# Altium footprint library DXPpcb.PCBLIB: 575 footprints (part 24 of 36)
Each footprint in its own frame and in the unit in brackets; x right, y up, seen from the top. Pads: shape width x height; smd on the part's side, far side on the other; paste and mask are expansions set on the pad; w line width, h text height; cw(c..) or ccw(c..) is an arc to the next point about the centre after c.
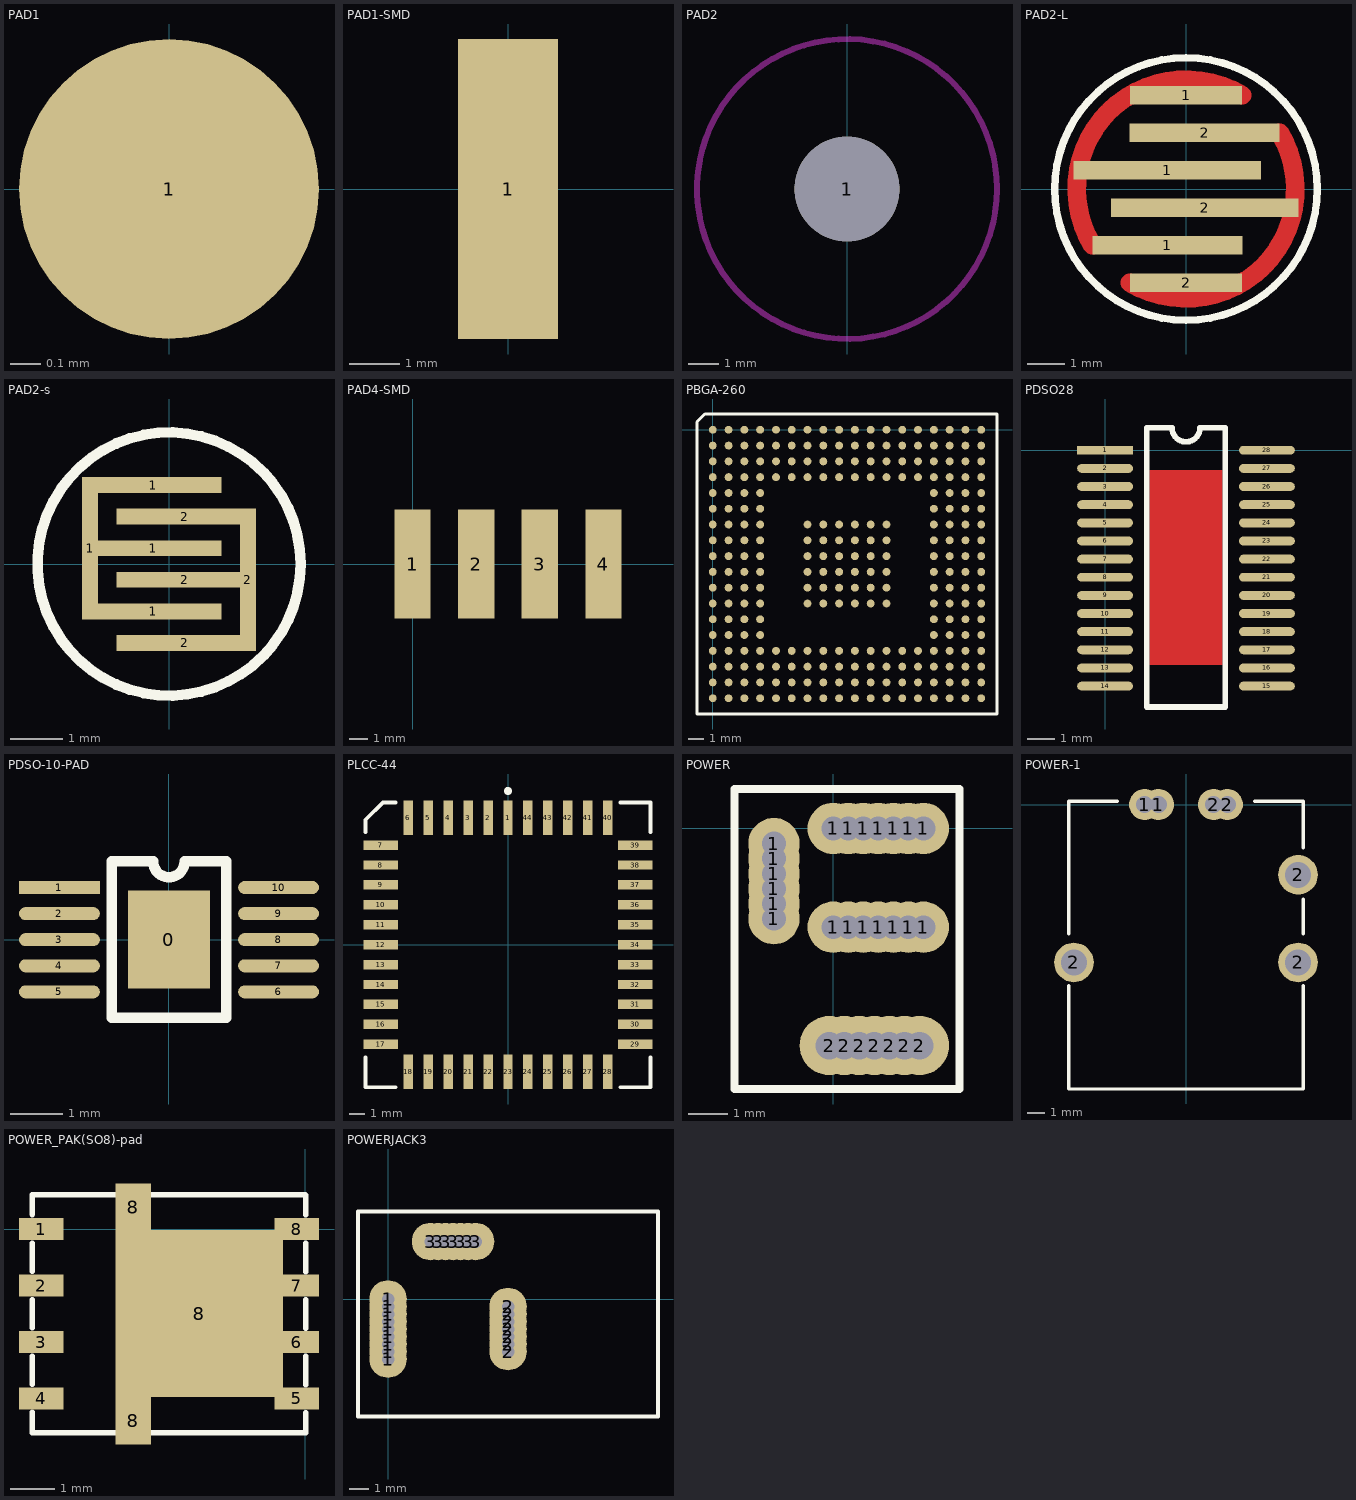
[diagram p23: the footprints below, top view; thin cyan lines are the x and y axes]

## PAD1 [mm]
pads (1):
  round 1 smd: 1(0,0)

## PAD1-SMD [mm]
pads (1):
  rect 2x6 smd: 1(0,0)

## PAD2 [mm]
pads (1):
  round 3.5 hole 3.5: 1(0,32.5)
KeepOutLayer:
  circle w0.2: c0,32.5 r5

## PAD2-L [mm]
pads (6):
  rect 4x0.5 smd: 1(-0.5,-1.5) 2(0.5,1.5)
  rect 5x0.5 smd: 1(-0.5,0.5) 2(0.5,-0.5)
  rect 3x0.5 smd: 1(0,2.5) 2(0,-2.5)
TopLayer:
  lines w0.5: -2.5,-1.5 cw(c0,0) 1.5,2.5 ; -1.5,-2.5 ccw(c0,0) 2.5,1.5
TopOverlay:
  circle w0.2: c0,0 r3.5
TopSolder:
  lines w0.6: -2.5,-1.5 cw(c0,0) 1.5,2.5 ; -1.5,-2.5 ccw(c0,0) 2.5,1.5

## PAD2-s [mm]
pads (8):
  rect 0.3x2.7 smd: 1(-1.5,0.3) 2(1.5,-0.3)
  rect 2.6x0.3 smd: 1(-0.3,-0.9) 1(-0.3,0.3) 1(-0.3,1.5) 2(0.3,-1.5) 2(0.3,-0.3) 2(0.3,0.9)
TopOverlay:
  circle w0.2: c0,0 r2.5

## PAD4-SMD [mm]
pads (4):
  rect 2x6 smd: 1(0,0) 2(3.5,0) 3(7,0) 4(10.5,0)

## PBGA-260 [mm]
pads (260):
  round 0.5 smd: A1(0,0) A2(1,0) A3(2,0) A4(3,0) A5(4,0) A6(5,0) A7(6,0) A8(7,0) A9(8,0) A10(9,0) A11(10,0) A12(11,0) A13(12,0) A14(13,0) A15(14,0) A16(15,0) A17(16,0) A18(17,0) B1(0,-1) B2(1,-1) B3(2,-1) B4(3,-1) B5(4,-1) B6(5,-1) B7(6,-1) B8(7,-1) B9(8,-1) B10(9,-1) B11(10,-1) B12(11,-1) B13(12,-1) B14(13,-1) B15(14,-1) B16(15,-1) B17(16,-1) B18(17,-1) C1(0,-2) C2(1,-2) C3(2,-2) C4(3,-2) C5(4,-2) C6(5,-2) C7(6,-2) C8(7,-2) C9(8,-2) C10(9,-2) C11(10,-2) C12(11,-2) C13(12,-2) C14(13,-2) C15(14,-2) C16(15,-2) C17(16,-2) C18(17,-2) D1(0,-3) D2(1,-3) D3(2,-3) D4(3,-3) D5(4,-3) D6(5,-3) D7(6,-3) D8(7,-3) D9(8,-3) D10(9,-3) D11(10,-3) D12(11,-3) D13(12,-3) D14(13,-3) D15(14,-3) D16(15,-3) D17(16,-3) D18(17,-3) E1(0,-4) E2(1,-4) E3(2,-4) E4(3,-4) E15(14,-4) E16(15,-4) E17(16,-4) E18(17,-4) F1(0,-5) F2(1,-5) F3(2,-5) F4(3,-5) F15(14,-5) F16(15,-5) F17(16,-5) F18(17,-5) G1(0,-6) G2(1,-6) G3(2,-6) G4(3,-6) G7(6,-6) G8(7,-6) G9(8,-6) G10(9,-6) G11(10,-6) G12(11,-6) G15(14,-6) G16(15,-6) G17(16,-6) G18(17,-6) H1(0,-7) H2(1,-7) H3(2,-7) H4(3,-7) H7(6,-7) H8(7,-7) H9(8,-7) H10(9,-7) H11(10,-7) H12(11,-7) H15(14,-7) H16(15,-7) H17(16,-7) H18(17,-7) J1(0,-8) J2(1,-8) J3(2,-8) J4(3,-8) J7(6,-8) J8(7,-8) J9(8,-8) J10(9,-8) J11(10,-8) J12(11,-8) J15(14,-8) J16(15,-8) J17(16,-8) J18(17,-8) K1(0,-9) K2(1,-9) K3(2,-9) K4(3,-9) K7(6,-9) K8(7,-9) K9(8,-9) K10(9,-9) K11(10,-9) K12(11,-9) K15(14,-9) K16(15,-9) K17(16,-9) K18(17,-9) L1(0,-10) L2(1,-10) L3(2,-10) L4(3,-10) L7(6,-10) L8(7,-10) L9(8,-10) L10(9,-10) L11(10,-10) L12(11,-10) L15(14,-10) L16(15,-10) L17(16,-10) L18(17,-10) M1(0,-11) M2(1,-11) M3(2,-11) M4(3,-11) M7(6,-11) M8(7,-11) M9(8,-11) M10(9,-11) M11(10,-11) M12(11,-11) M15(14,-11) M16(15,-11) M17(16,-11) M18(17,-11) N1(0,-12) N2(1,-12) N3(2,-12) N4(3,-12) N15(14,-12) N16(15,-12) N17(16,-12) N18(17,-12) P1(0,-13) P2(1,-13) P3(2,-13) P4(3,-13) P15(14,-13) P16(15,-13) P17(16,-13) P18(17,-13) R1(0,-14) R2(1,-14) R3(2,-14) R4(3,-14) R5(4,-14) R6(5,-14) R7(6,-14) R8(7,-14) R9(8,-14) R10(9,-14) R11(10,-14) R12(11,-14) R13(12,-14) R14(13,-14) R15(14,-14) R16(15,-14) R17(16,-14) R18(17,-14) T1(0,-15) T2(1,-15) T3(2,-15) T4(3,-15) T5(4,-15) T6(5,-15) T7(6,-15) T8(7,-15) T9(8,-15) T10(9,-15) T11(10,-15) T12(11,-15) T13(12,-15) T14(13,-15) T15(14,-15) T16(15,-15) T17(16,-15) T18(17,-15) U1(0,-16) U2(1,-16) U3(2,-16) U4(3,-16) U5(4,-16) U6(5,-16) U7(6,-16) U8(7,-16) U9(8,-16) U10(9,-16) U11(10,-16) U12(11,-16) U13(12,-16) U14(13,-16) U15(14,-16) U16(15,-16) U17(16,-16) U18(17,-16) V1(0,-17) V2(1,-17) V3(2,-17) V4(3,-17) V5(4,-17) V6(5,-17) V7(6,-17) V8(7,-17) V9(8,-17) V10(9,-17) V11(10,-17) V12(11,-17) V13(12,-17) V14(13,-17) V15(14,-17) V16(15,-17) V17(16,-17) V18(17,-17)
TopOverlay:
  lines w0.2: -1,-18 18,-18 18,1 -0.5,1 -1,0.5 -1,-18

## PCBComponent_1 [mm]

## PCBComponent_1 - duplicate [mm]

## PDSO28 [mm]
pads (28):
  rect 2x0.32 smd: 1(0,0)
  oval 2x0.32 smd: 2(0,-0.65) 3(0,-1.3) 4(0,-1.95) 5(0,-2.6) 6(0,-3.25) 7(0,-3.9) 8(0,-4.55) 9(0,-5.2) 10(0,-5.85) 11(0,-6.5) 12(0,-7.15) 13(0,-7.8) 14(0,-8.45) 15(5.8,-8.45) 16(5.8,-7.8) 17(5.8,-7.15) 18(5.8,-6.5) 19(5.8,-5.85) 20(5.8,-5.2) 21(5.8,-4.55) 22(5.8,-3.9) 23(5.8,-3.25) 24(5.8,-2.6) 25(5.8,-1.95) 26(5.8,-1.3) 27(5.8,-0.65) 28(5.8,0)
TopLayer:
  rectangle: 1.6,-7.7 4.2,-0.7
TopOverlay:
  lines w0.2: 1.5,-9.2 1.5,0.8 2.4,0.8 ccw(c2.9,0.8) 3.4,0.8 4.3,0.8 4.3,-9.2 1.5,-9.2

## PDSO-10-PAD [mm]
pads (11):
  rect 1.57x1.88 smd: 0(0,0)
  rect 1.55x0.25 smd: 1(-2.1,1)
  oval 1.55x0.25 smd: 2(-2.1,0.5) 3(-2.1,0) 4(-2.1,-0.5) 5(-2.1,-1) 6(2.1,-1) 7(2.1,-0.5) 8(2.1,0) 9(2.1,0.5) 10(2.1,1)
TopOverlay:
  lines w0.2: -0.304,1.5 ccw(c-0.002,1.5) 0.3,1.5 1.1,1.5 1.1,-1.5 -1.1,-1.5 -1.1,1.5 -0.3,1.5

## PLCC-44 [mm] "PLCC; 44 Leads; Body 16.5 x 16.5 mm"
height 4.57
pads (44):
  rect 0.6x2.2 smd: 1(0,8.1) 2(-1.27,8.1) 3(-2.54,8.1) 4(-3.81,8.1) 5(-5.08,8.1) 6(-6.35,8.1) 18(-6.35,-8.1) 19(-5.08,-8.1) 20(-3.81,-8.1) 21(-2.54,-8.1) 22(-1.27,-8.1) 23(0,-8.1) 24(1.27,-8.1) 25(2.54,-8.1) 26(3.81,-8.1) 27(5.08,-8.1) 28(6.35,-8.1) 40(6.35,8.1) 41(5.08,8.1) 42(3.81,8.1) 43(2.54,8.1) 44(1.27,8.1)
  rect 2.2x0.6 smd: 7(-8.1,6.35) 8(-8.1,5.08) 9(-8.1,3.81) 10(-8.1,2.54) 11(-8.1,1.27) 12(-8.1,0) 13(-8.1,-1.27) 14(-8.1,-2.54) 15(-8.1,-3.81) 16(-8.1,-5.08) 17(-8.1,-6.35) 29(8.1,-6.35) 30(8.1,-5.08) 31(8.1,-3.81) 32(8.1,-2.54) 33(8.1,-1.27) 34(8.1,0) 35(8.1,1.27) 36(8.1,2.54) 37(8.1,3.81) 38(8.1,5.08) 39(8.1,6.35)
TopOverlay:
  circle w0.25: c0,9.8 r0.125
  lines w0.25: -9.075,-7.198 -9.075,-9.087 -7.185,-9.087 ; -9.075,7.172 -9.075,7.963 -7.975,9.063 -7.185,9.063 ; 7.185,-9.087 9.075,-9.087 9.075,-7.198 ; 7.185,9.063 9.075,9.063 9.075,7.172

## POWER [mm]
pads (27):
  round 1.3 hole 0.6: 1(-1.5,-0.381) 1(-1.5,-2.286) 1(-1.5,-1.905) 1(-1.5,-1.524) 1(-1.5,-1.143) 1(-1.5,-0.762) 1(0,-2.5) 1(0,0) 1(0.381,-2.5) 1(0.381,0) 1(0.762,-2.5) 1(0.762,0) 1(1.143,-2.5) 1(1.143,0) 1(1.524,-2.5) 1(1.524,0) 1(1.905,-2.5) 1(1.905,0) 1(2.286,-2.5) 1(2.286,0)
  round 1.5 hole 0.7: 2(-0.1,-5.5) 2(0.281,-5.5) 2(0.662,-5.5) 2(1.043,-5.5) 2(1.424,-5.5) 2(1.805,-5.5) 2(2.186,-5.5)
TopOverlay:
  lines w0.2: -2.5,-6.6 -2.5,1 3.2,1 3.2,-6.6 -2.5,-6.6

## POWER-1 [mm]
pads (7):
  round 1.8 hole 1: 1(-2.4,0) 1(-1.6,0) 2(1.6,0) 2(2.4,0)
  round 2.3 hole 1.5: 2(-6.5,-9.16) 2(6.5,-9.16) 2(6.5,-4.08)
TopOverlay:
  lines w0.2: -6.8,-10.5 -6.8,-16.5 6.8,-16.5 6.8,-10.5 ; -6.8,-7.5 -6.8,0.2 -4,0.2 ; 4,0.2 6.8,0.2 6.8,-2.5 ; 6.8,-7.5 6.8,-5.5

## POWER_PAK(SO8)-pad [mm]
pads (11):
  rect 1x0.5 smd: 1(-5.944,0.004) 2(-5.944,-1.266) 3(-5.944,-2.536) 4(-5.944,-3.806) 5(-0.194,-3.806) 6(-0.194,-2.536) 7(-0.194,-1.266) 8(-0.194,0.004)
  rect 0.79x1.07 smd: 8(-3.874,0.494) 8(-3.874,-4.306)
  rect 3.77x3.76 smd: 8(-2.384,-1.896)
TopOverlay:
  lines w0.127: -6.144,-4.116 -6.144,-4.576 0.006,-4.576 0.006,-4.126 ; -6.144,-3.486 -6.144,-2.856 ; -6.144,-2.216 -6.144,-1.586 ; -6.144,-0.946 -6.144,-0.316 ; -6.144,0.334 -6.144,0.774 ; -0.254,0.774 -6.144,0.774 ; 0.006,-3.496 0.006,-2.856 ; 0.006,-2.226 0.006,-1.586 ; 0.006,-0.956 0.006,-0.316 ; 0.006,0.324 0.006,0.764 -0.004,0.774 -6.144,0.774

## POWERJACK3 [mil]
pads (23):
  round 75 hole 25: 1(0,-120) 1(0,-105) 1(0,-90) 1(0,-75) 1(0,-60) 1(0,-45) 1(0,-30) 1(0,-15) 1(0,0) 2(240,-105) 2(240,-90) 2(240,-75) 2(240,-60) 2(240,-45) 2(240,-30) 2(240,-15) 3(85,115) 3(100,115) 3(115,115) 3(130,115) 3(145,115) 3(160,115) 3(175,115)
TopOverlay:
  lines w7.87: -60,-235 -60,175 540,175 540,-235 -60,-235